# Altium integrated library libysk.IntLib: 22 symbols
Pins are listed as number, name and electrical type; pins without a type are passive.

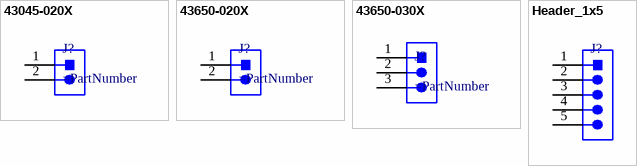
[diagram p0: symbols 43045-020X to Header_1x5]

## 43045-020X
designator J?
Molex Micro-Fit 3.0, 2POS, R/A w/Pegs, Dual row
footprint 43045-020X (Molex Micro-Fit 3.0, 2POS, R/A w/Pegs, Dual row)
pins: 1, 2

## 43650-020X
designator J?
Header, Micro-Fit 3.0 , Molex, R/A, 2 POS, 3mm
footprint 43650-020X (Molex Micro-Fit 3.0, 2POS, R/A w/Pegs, Single row)
pins: 1, 2

## 43650-030X
designator J?
Header, Micro-Fit 3.0 , Molex, R/A, 2 POS, 3mm
footprint 43650-030X (Molex Micro-Fit 3.0, 2POS, R/A w/Pegs, Single row)
pins: 1, 2, 3

## Header_1x5
designator J?  (value not drawn)
footprint HDR_1x5 (HDR, single-row, 5 pins)
pins: 1, 2, 3, 4, 5


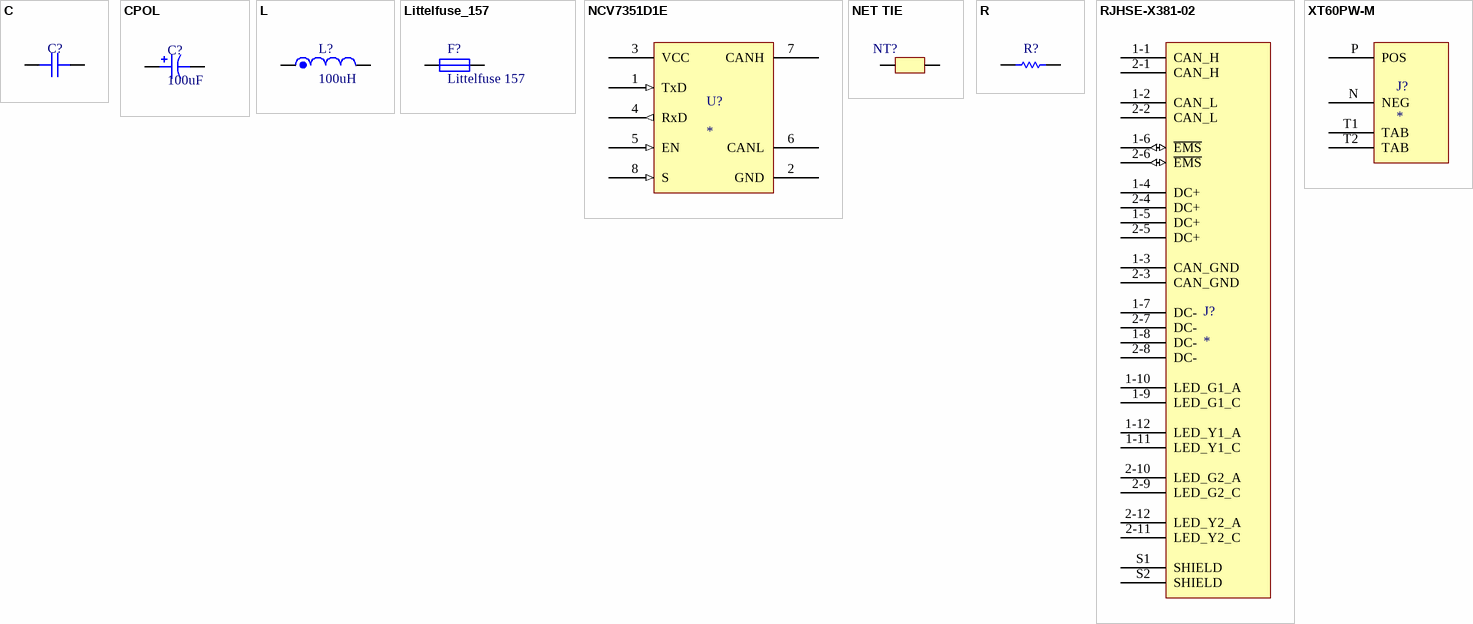
[diagram p1: symbols C to XT60PW-M]

## C
designator C?
footprint C0603N (Chip Capacitor, 2-Leads, Body 1.60x0.80mm, IPC Medium Density)
footprint C1210N (Chip Capacitor, 2-Leads, Body 3.20x2.50mm, IPC Medium Density)
footprint C0805N (Chip Capacitor, 2-Leads, Body 2.00x1.25mm, IPC Medium Density)
pins: 1, 2

## CPOL
designator C?, comment 100uF
footprint CPOL_8x11_5_THRU (Capacitor with polarity, Radial lead, D=5mm, H=11mm, Pitch 5mm, Through-hole)
pins: 1, 2

## L
designator L?, comment 100uH
footprint SRP1265A (Molded Inductor, 2-Leads, Body 12.50x12.50mm, IPC Medium Density)
footprint VLS5045EX_TDK (Precision Wire Wound Inductor, 2-Leads, Body 5.00x5.00mm, IPC Medium Density)
pins: 1, 2

## Littelfuse_157
designator F?, comment Littelfuse 157
footprint Littelfuse_157 (Surface ount Fuse Assy, 2-Leads, Body 6.10x2.69mm, IPC Medium Density)
pins: 1, 2

## NCV7351D1E
designator U?
footprint SOIC127P600X175-8N (SOIC, 8-Leads, Body 4.90x3.90mm, Pitch 1.27mm, IPC Medium Density)
pins: 1 TxD (in) "Transmit data input; low input -> dominant driver", 2 GND (power), 3 VCC (power), 4 RxD (out), 5 EN (in), 6 CANL, 7 CANH, 8 S (in)

## NET TIE
designator NT?, comment Net tie  (value not drawn)  (net tie, no BOM)
footprint NET_TIE_0_2 (Net tie, 0.2mm width)
pins: 1, 2

## R
designator R?
footprint CR0603 (Bourns Chip Resistor, CR Series, 2-Leads, Body 1.60x0.80mm, IPC Low Density)
footprint CR0805 (Bourns Chip Resistor, CR Series, 2-Leads, Body 2.00x1.25mm, IPC Low Density)
footprint CR1206 (Bourns Chip Resistor, CR Series, 2-Leads, Body 3.20x1.60mm, IPC Low Density)
footprint RESC1608X05N (Chip Resistor, 2-Leads, Body 1.60x0.80mm, IPC Medium Density)
footprint R1206N (Chip Resistor, 2-Leads, Body 3.20x1.60mm, IPC Medium Density)
footprint R0603N (Chip Resistor, 2-Leads, Body 1.60x0.80mm, IPC Medium Density)
pins: 1, 2

## RJHSE-X381-02
designator J?
footprint RJHSE-X38X-02
pins: 1-1 CAN_H, 1-2 CAN_L, 1-3 CAN_GND, 1-4 DC+, 1-5 DC+, 1-6 ~{EMS} (io), 1-7 DC-, 1-8 DC-, 1-9 LED_G1_C, 1-10 LED_G1_A, 1-11 LED_Y1_C, 1-12 LED_Y1_A, 2-1 CAN_H, 2-2 CAN_L, 2-3 CAN_GND, 2-4 DC+, 2-5 DC+, 2-6 ~{EMS} (io), 2-7 DC-, 2-8 DC-, 2-9 LED_G2_C, 2-10 LED_G2_A, 2-11 LED_Y2_C, 2-12 LED_Y2_A, S1 SHIELD, S2 SHIELD

## XT60PW-M
designator J?
XT60, Male, THT, R/A
footprint XT60PW-M (XT60, 2 pins, Male, PCB mount, TH, R/A)
pins: N NEG, P POS, T1 TAB, T2 TAB


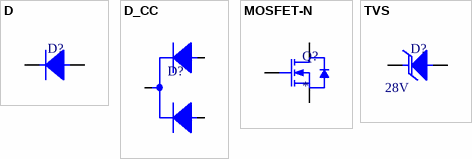
[diagram p2: symbols D to TVS]

## D
designator D?
footprint SMB (Molded Diode, 2-Leads, Body 4.31x3.62mm, IPC Medium Density)
footprint SOD323FLN (SODFL, 2-Leads, Body 1.45x2.60mm, IPC Medium Density)
pins: 1 C, 2 A

## D_CC
designator D?
Diode, Common Cathode
footprint DPAK_JEDEC_N (D-PAK, 3-Pads, Body 6.21x6.73mm (max), IPC Medium Density); pin to pad 2>4
pins: 1 A1, 2 C, 3 A2

## MOSFET-N
designator Q?
footprint DFN-5 (SO-8FL)
pins: D, G, S

## TVS
designator D?  Standoff Voltage: 28V
Clamp Voltage: *
footprint SMB (Molded Diode, 2-Leads, Body 4.31x3.62mm, IPC Medium Density)
pins: 1 C, 2 A


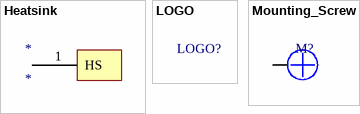
[diagram p3: symbols Heatsink to Mounting_Screw]

## Heatsink
designator *
footprint HS_2510 (Heatsink, 25x25, height 10mm)
pins: 1 HS

## LOGO
designator LOGO?  (graphical)
footprint LOGO_designed_by_ysk ("Designed by ysk" logo)

## Mounting_Screw
designator M?
footprint MOUNT_HOLE_3.2 (mouting hole for corners, D=3.20mm)
pins: 1


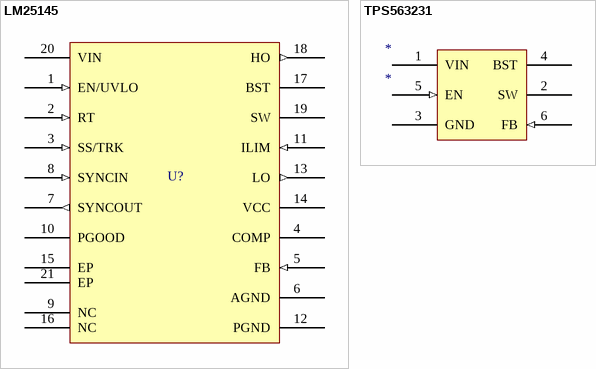
[diagram p4: symbols LM25145 to TPS563231]

## LM25145
designator U?
footprint RGY0020B_TI_N (QFN, 20-Leads, Body 3.50x4.50mm, Pitch 1.50mm/0.50mm, Thermal Pad 1.70x2.70mm, IPC Medium Density)
pins: 1 EN/UVLO (in), 2 RT (in), 3 SS/TRK (in), 4 COMP, 5 FB (in), 6 AGND (power), 7 SYNCOUT (out), 8 SYNCIN (in), 9 NC, 10 PGOOD (oc), 11 ILIM (in), 12 PGND (power), 13 LO (out), 14 VCC, 15 EP, 16 NC, 17 BST, 18 HO (out), 19 SW, 20 VIN (power), 21 EP

## TPS563231
designator *
footprint DRL0006A_TI_N (SOTFL, 6-Leads, Body 1.60x1.60mm, Pitch 0.50mm, IPC Medium Density)
pins: 1 VIN (power), 2 SW, 3 GND (power), 4 BST, 5 EN (in), 6 FB (in)